# Altium footprint library Capacitor Electrolytic Axial.PcbLib: 19 footprints (part 2 of 2)
Each footprint in its own frame and in the unit in brackets; x right, y up, seen from the top. Pads: shape width x height; smd on the part's side, far side on the other; paste and mask are expansions set on the pad; w line width, h text height; cw(c..) or ccw(c..) is an arc to the next point about the centre after c.
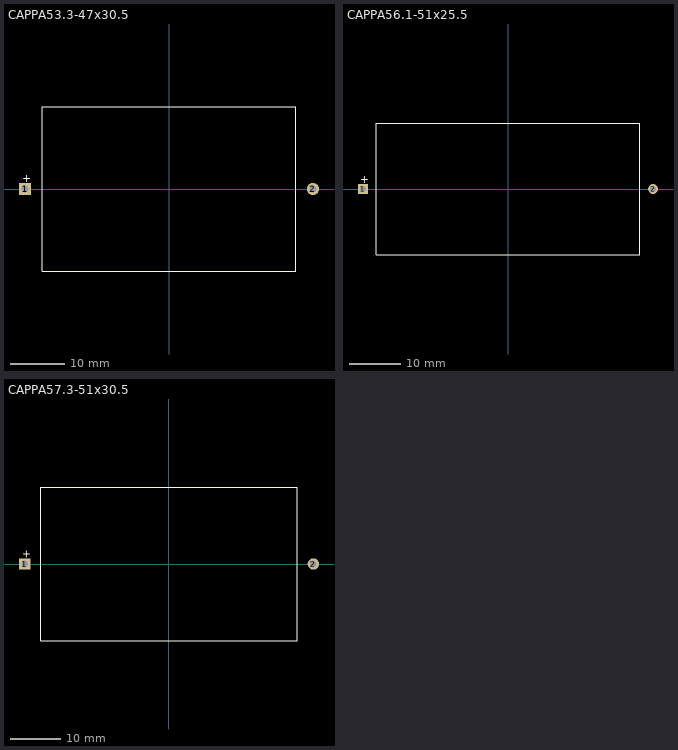
[diagram p1: the footprints below, top view; thin cyan lines are the x and y axes]

## CAPPA53.3-47x30.5 [mm] "Capacitor, Electrolytic, Axial; Body 47 x 30.5 mm (LxDia. max), Lead Dia. 1 mm (typ)"
height 30.5
pads (2):
  rect 2.25x2.25 hole 1.35: 1(-26.65,0)
  round 2.25 hole 1.35: 2(26.65,0)
Top Overlay:
  lines w0.2: -23.5,-15.25 23.5,-15.25 23.5,15.25 -23.5,15.25 -23.5,-15.25
  text "+" at -27.15,1.25 h1.5

## CAPPA56.1-51x25.5 [mm] "Capacitor, Electrolytic, Axial; Body 51 x 25.5 mm (LxDia. max), Lead Dia. 0.8 mm (typ)"
height 25.5
pads (2):
  rect 1.9x1.9 hole 1.15: 1(-28.05,0)
  round 1.9 hole 1.15: 2(28.05,0)
Top Overlay:
  lines w0.2: -25.5,-12.75 -25.5,12.75 25.5,12.75 25.5,-12.75 -25.5,-12.75
  text "+" at -28.55,1.075 h1.5

## CAPPA57.3-51x30.5 [mm] "Capacitor, Electrolytic, Axial; Body 51 x 30.5 mm (LxDia. max), Lead Dia. 1 mm (typ)"
height 30.5
pads (2):
  rect 2.25x2.25 hole 1.35: 1(-28.65,0)
  round 2.25 hole 1.35: 2(28.65,0)
Top Overlay:
  lines w0.2: -25.5,-15.25 -25.5,15.25 25.5,15.25 25.5,-15.25 -25.5,-15.25
  text "+" at -29.15,1.25 h1.5